# Altium footprint library Edge_logic_analyzer.PcbLib: 51 footprints (part 2 of 4)
Each footprint in its own frame and in the unit in brackets; x right, y up, seen from the top. Pads: shape width x height; smd on the part's side, far side on the other; paste and mask are expansions set on the pad; w line width, h text height; cw(c..) or ccw(c..) is an arc to the next point about the centre after c.
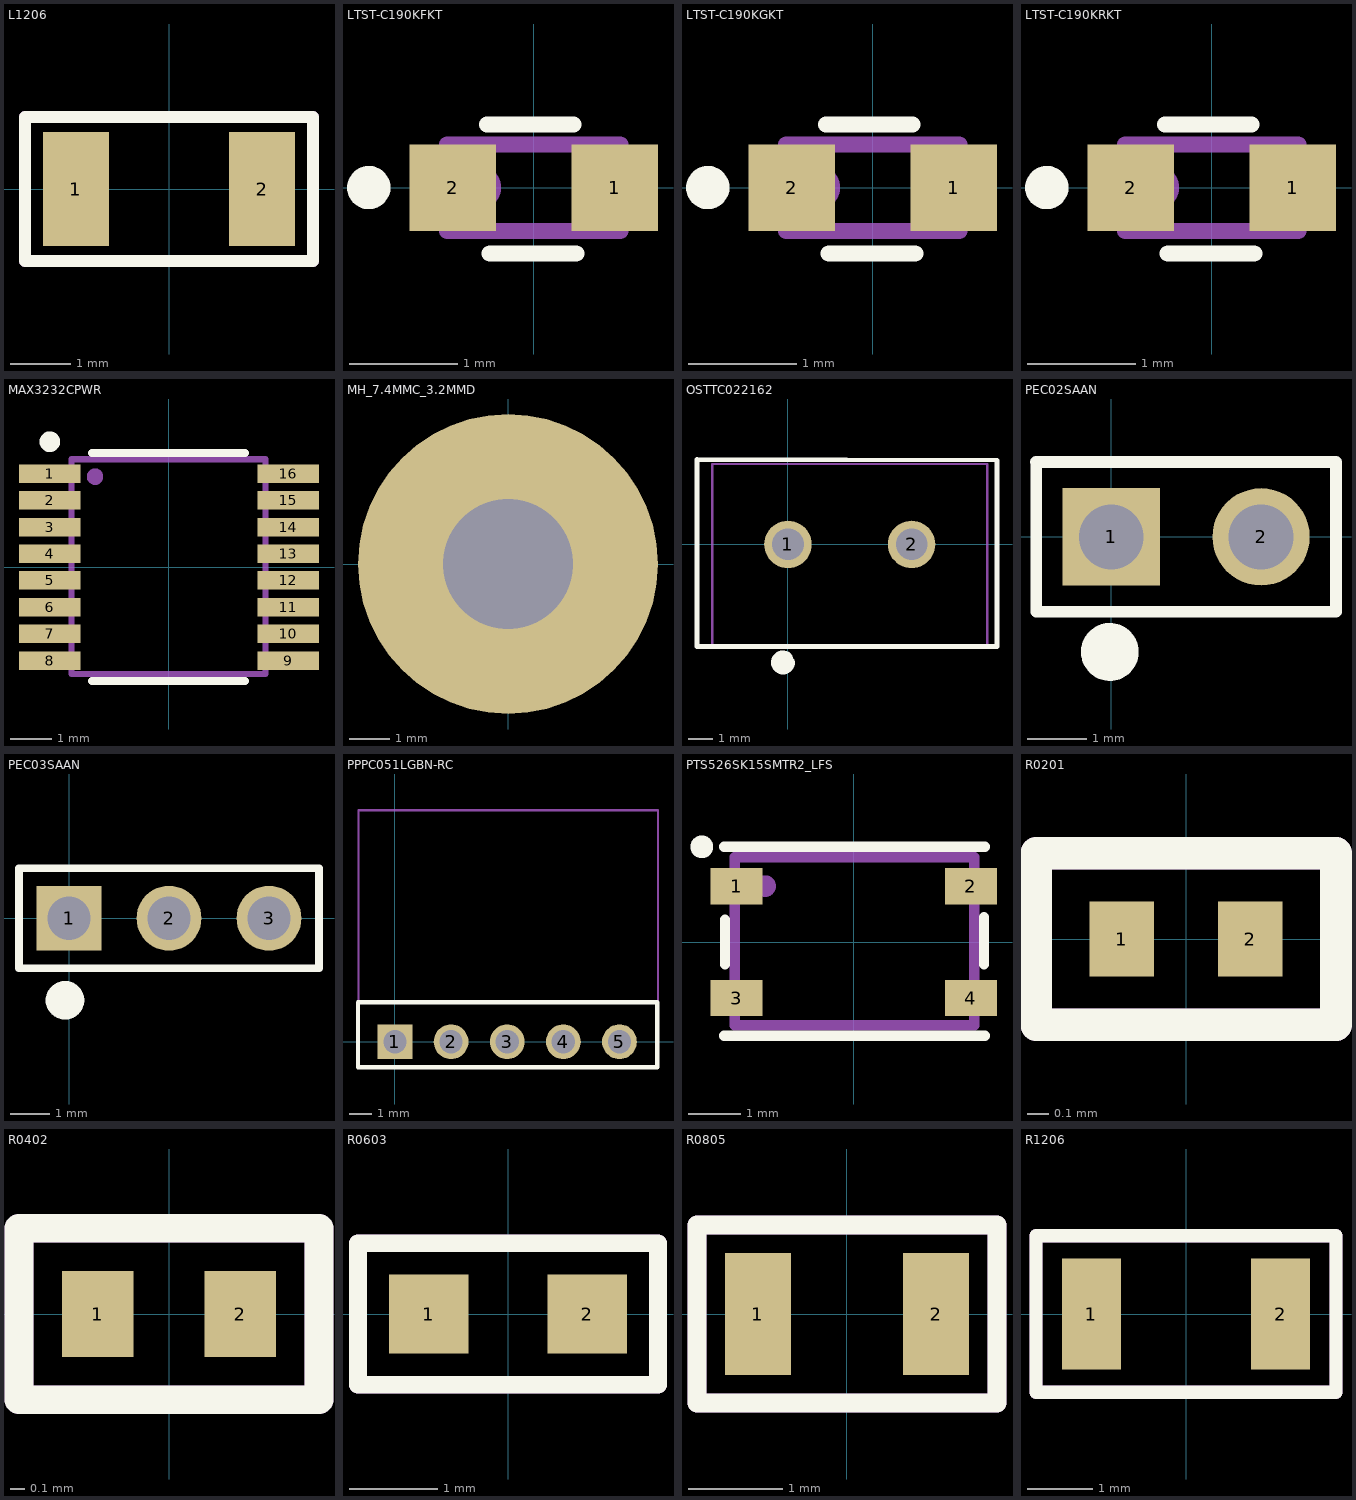
[diagram p1: the footprints below, top view; thin cyan lines are the x and y axes]

## L1206 [mm] "Chip Capacitor, 2-Leads, Body 3.20x1.60mm, IPC Medium Density"
height 0.95
pads (2):
  rect 1.1x1.9 smd: 1(-1.55,0) 2(1.55,0)
Top Overlay:
  lines w0.2: -2.4,-1.2 2.4,-1.2 2.4,1.2 -2.4,1.2 -2.4,-1.2
Mechanical 29:
  lines w0.2: -2.4,-1.2 -2.4,1.2 2.4,1.2 2.4,-1.2 -2.4,-1.2
  text "'.Designator'" at -0.8,-0.1 h1
3D body "L1206.step": height 1.1, standoff 0, extent -1.7,-0.9 1.7,0.9

## LTST-C190KFKT [mm]
pads (2):
  rect 0.8x0.8 smd mask+0.05: 1(0.75,0) 2(-0.75,0)
Top Overlay:
  circle w0.2: c-1.525,0 r0.1
  lines w0.15: -0.432,0.584 0.368,0.584 ; -0.406,-0.61 0.394,-0.61
Mechanical 29:
  circle w0.2: c-0.5,0 r0.1
  lines w0.15: -0.8,-0.4 -0.8,0.4 0.8,0.4 0.8,-0.4 -0.8,-0.4
  text "'.Designator'" at -0.8,-0.1 h1
3D body "step_temp.STEP": height 0.8, standoff 0, extent -0.8,-0.4 0.8,0.4

## LTST-C190KGKT [mm]
pads (2):
  rect 0.8x0.8 smd mask+0.05: 1(0.75,0) 2(-0.75,0)
Top Overlay:
  circle w0.2: c-1.525,0 r0.1
  lines w0.15: -0.432,0.584 0.368,0.584 ; -0.406,-0.61 0.394,-0.61
Mechanical 29:
  circle w0.2: c-0.5,0 r0.1
  lines w0.15: -0.8,-0.4 0.8,-0.4 0.8,0.4 -0.8,0.4 -0.8,-0.4
  text "'.Designator'" at -0.8,-0.1 h1
3D body "step_temp.STEP": height 0.8, standoff 0, extent -0.8,-0.4 0.8,0.4

## LTST-C190KRKT [mm]
pads (2):
  rect 0.8x0.8 smd mask+0.05: 1(0.75,0) 2(-0.75,0)
Top Overlay:
  circle w0.2: c-1.525,0 r0.1
  lines w0.15: -0.432,0.584 0.368,0.584 ; -0.406,-0.61 0.394,-0.61
Mechanical 29:
  circle w0.2: c-0.5,0 r0.1
  lines w0.15: -0.8,-0.4 -0.8,0.4 0.8,0.4 0.8,-0.4 -0.8,-0.4
  text "'.Designator'" at -0.8,-0.1 h1
3D body "step_temp.STEP": height 0.8, standoff 0, extent -0.8,-0.4 0.8,0.4

## MAX3232CPWR [mm] "TSOP, 16-Leads, Body 5,00x4,40mm, Pitch 0,65mm, IPC Medium Density"
height 1.2
pads (16):
  rect 1.5x0.45 smd mask+0.05: 1(-2.9,2.275) 2(-2.9,1.625) 3(-2.9,0.975) 4(-2.9,0.325) 5(-2.9,-0.325) 6(-2.9,-0.975) 7(-2.9,-1.625) 8(-2.9,-2.275) 9(2.9,-2.275) 10(2.9,-1.625) 11(2.9,-0.975) 12(2.9,-0.325) 13(2.9,0.325) 14(2.9,0.975) 15(2.9,1.625) 16(2.9,2.275)
Top Overlay:
  circle w0.25: c-2.9,3.05 r0.125
  lines w0.2: -1.875,-2.775 1.85,-2.775 ; -1.875,2.775 1.85,2.775
Mechanical 29:
  circle w0.2: c-1.8,2.2 r0.1
  lines w0.15: -2.375,-2.6 -2.375,2.625 2.35,2.625 2.35,-2.6 -2.375,-2.6
  text "'.Designator'" at -0.65,-0.075 h0.85
3D body "TSOP65P640X120-16N.step": height 1.2, standoff 0, extent -3.2,-2.55 3.2,2.55

## MH_7.4MMC_3.2MMD [mm]
pads (1):
  round 7.4 hole 3.2: ""(0,0)

## OSTTC022162 [mm]
pads (2):
  round 1.95 hole 1.3: 1(0,0) 2(5.08,0)
Top Overlay:
  lines w0.2: -3.734,3.454 -3.735,-4.2 8.586,-4.2 8.586,3.454 -3.734,3.479
  lines w0.5: -0.032,-4.683 ccw(c-0.203,-4.851) 0.037,-4.851
Mechanical 29:
  circle w0.5: c0,0 r0.24
  lines w0.1: -3.1,-4.2 -3.1,3.3 8.18,3.3 8.18,-4.2 -3.1,-4.2
  text "'.Designator'" at 0.051,1.168 h1
3D body "Conn- OSTTC022162 v12.step": height 10.3, standoff -3.5, extent -3.802,-4.089 8.628,3.411

## PEC02SAAN [mm]
pads (2):
  rect 1.65x1.65 hole 1.1: 1(0,0)
  round 1.65 hole 1.1: 2(2.54,0)
Top Overlay:
  circle w0.5: c-0.025,-1.95 r0.24
  lines w0.2: -1.275,1.27 3.81,1.27 3.81,-1.27 -1.27,-1.27 -1.27,1.27
Mechanical 29:
  circle w0.5: c0,0 r0.24
  lines w0.1: -1.27,-1.27 3.81,-1.27 3.81,1.27 -1.27,1.27 -1.27,-1.27
  text "'.Designator'" at 0.518,-0.048 h1
3D body "PEC02SAAN.stp": height 8.38, standoff -3.05, extent -1.27,-1.27 3.81,1.27

## PEC03SAAN [mm]
pads (3):
  rect 1.65x1.65 hole 1.1: 1(0,0)
  round 1.65 hole 1.1: 2(2.54,0) 3(5.08,0)
Top Overlay:
  circle w0.5: c-0.103,-2.084 r0.24
  lines w0.2: -1.27,1.27 -1.27,-1.27 6.35,-1.27 6.35,1.27 -1.25,1.27
Mechanical 29:
  circle w0.5: c0,0 r0.24
  lines w0.1: -1.27,-1.27 -1.27,1.27 6.35,1.27 6.35,-1.27 -1.27,-1.27
  text "'.Designator'" at 1.718,-0.073 h1
3D body "PEC03SAAN.stp": height 8.38, standoff -3.05, extent -1.27,-1.27 6.35,1.27

## PPPC051LGBN-RC [mm]
pads (5):
  rect 1.575x1.575 hole 1.05: 1(0,0)
  round 1.575 hole 1.05: 2(2.54,0) 3(5.08,0) 4(7.62,0) 5(10.16,0)
Top Overlay:
  lines w0.2: -1.672,-1.143 -1.672,0 -1.672,1.8 11.878,1.8 11.878,-1.143 -1.672,-1.143
Mechanical 29:
  circle w0.5: c0,0 r0.25
  lines w0.1: -1.647,-1.168 11.903,-1.168 11.903,10.475 -1.647,10.475 -1.647,-1.168
  text "'.Designator'" at 3.9,4.625 h1
3D body "PPPC051LGBN-RC.stp": height 2.74, standoff -3.35, extent -1.52,-0.3 11.68,10.1

## PTS526SK15SMTR2_LFS [mm]
pads (4):
  rect 1x0.7 smd: 1(-2.25,1.075) 2(2.25,1.075) 3(-2.25,-1.075) 4(2.25,-1.075)
Top Overlay:
  circle w0.254: c-2.921,1.829 r0.092
  lines w0.2: -2.489,-1.803 -2.464,-1.803 2.515,-1.803 ; -2.489,1.829 2.489,1.829 2.515,1.829 ; -2.475,-0.425 -2.475,0.425 ; 2.5,-0.425 2.5,0.475
Mechanical 29:
  circle w0.254: c-1.704,1.075 r0.08
  lines w0.2: -2.286,-1.6 2.311,-1.6 2.311,1.626 -2.286,1.626 -2.286,-1.6
  text "'.Designator'" at -0.838,-0.051 h1
3D body "PTS815SJM250SMTRLFS.stp": height 2.5, standoff 0, extent -2.253,-1.592 2.247,1.608

## R0201 [mm]
pads (2):
  rect 0.3x0.35 smd mask+0.06: 1(-0.3,0) 2(0.3,0)
Top Overlay:
  lines w0.15: -0.7,-0.4 -0.7,0.4 0.7,0.4 0.7,-0.4 -0.7,-0.4
Mechanical 29:
  lines w0.15: -0.7,-0.4 0.7,-0.4 0.7,0.4 -0.7,0.4 -0.7,-0.4
  text "'.Designator'" at -0.4,-0.1 h0.2
3D body "C0201.step": height 0.3, standoff 0, extent -0.3,-0.15 0.3,0.15

## R0402 [mm]
pads (2):
  rect 0.5x0.6 smd: 1(-0.5,0) 2(0.5,0)
Top Overlay:
  lines w0.2: -1.05,-0.6 1.05,-0.6 1.05,0.6 -1.05,0.6 -1.05,-0.6
Mechanical 29:
  lines w0.2: -1.05,-0.6 1.05,-0.6 1.05,0.6 -1.05,0.6 -1.05,-0.6
  text "'.Designator'" at -0.75,-0.223 h0.5
3D body "R0402.step": height 0.41, standoff 0.01, extent -0.5,-0.25 0.5,0.25

## R0603 [mm]
height 0.9
pads (2):
  rect 0.9x0.9 smd: 1(-0.9,0) 2(0.9,0)
Top Overlay:
  lines w0.2: -1.7,-0.8 -1.7,0.8 1.7,0.8 1.7,-0.8 -1.7,-0.8
Mechanical 29:
  lines w0.2: -1.7,-0.8 1.7,-0.8 1.7,0.8 -1.7,0.8 -1.7,-0.8
  text "'.Designator'" at -1.3,-0.4 h0.8
3D body "R0603.stp": height 0.46, standoff 0.01, extent -0.775,-0.4 0.775,0.4

## R0805 [mm]
pads (2):
  rect 0.7x1.3 smd: 1(-0.95,0) 2(0.95,0)
Top Overlay:
  lines w0.2: -1.6,-0.95 1.6,-0.95 1.6,0.95 -1.6,0.95 -1.6,-0.95
Mechanical 29:
  lines w0.2: -1.6,-0.95 1.6,-0.95 1.6,0.95 -1.6,0.95 -1.6,-0.95
  text "'.Designator'" at -0.6,-0.347 h0.85
3D body "R0805.step": height 0.61, standoff 0.01, extent -1,-0.6 1,0.6

## R1206 [mm]
pads (2):
  rect 0.9x1.7 smd: 1(-1.45,0) 2(1.45,0)
Top Overlay:
  lines w0.2: -2.3,-1.2 2.3,-1.2 2.3,1.2 -2.3,1.2 -2.3,-1.2
Mechanical 29:
  lines w0.2: -2.3,-1.2 -2.3,1.2 2.3,1.2 2.3,-1.2 -2.3,-1.2
  text "'.Designator'" at -0.725,-0.075 h1
3D body "R1206.stp": height 0.56, standoff 0.01, extent -1.6,-0.8 1.6,0.8